# EAGLE library part LA6585 (library FaBo-Motor)
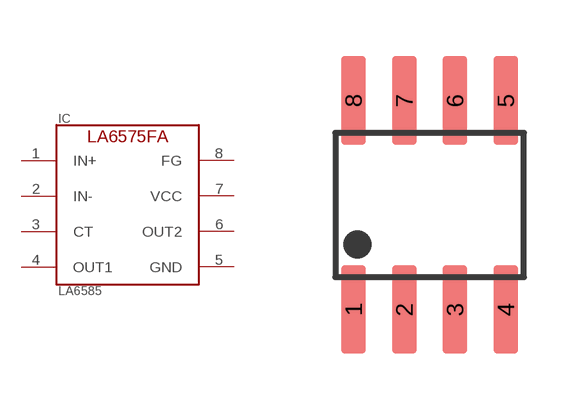
[diagram p5: symbol with the pads of SO8P; footprint SO8P]

Designator prefix IC

## LA6585  [SO8P]
1  IN+
2  IN-
3  CT
4  OUT1
5  GND
6  OUT2
7  VCC
8  FG

## Footprint SO8P (pad centres in mm)
smd 0.61 x 2.21: 1 -1.905,-2.616; 2 -0.635,-2.616; 3 0.635,-2.616; 4 1.905,-2.616; 5 1.905,2.616; 6 0.635,2.616; 7 -0.635,2.616; 8 -1.905,2.616